# Altium integrated library TI Interface Optical Module IC.IntLib: 48 symbols (part 4 of 4)
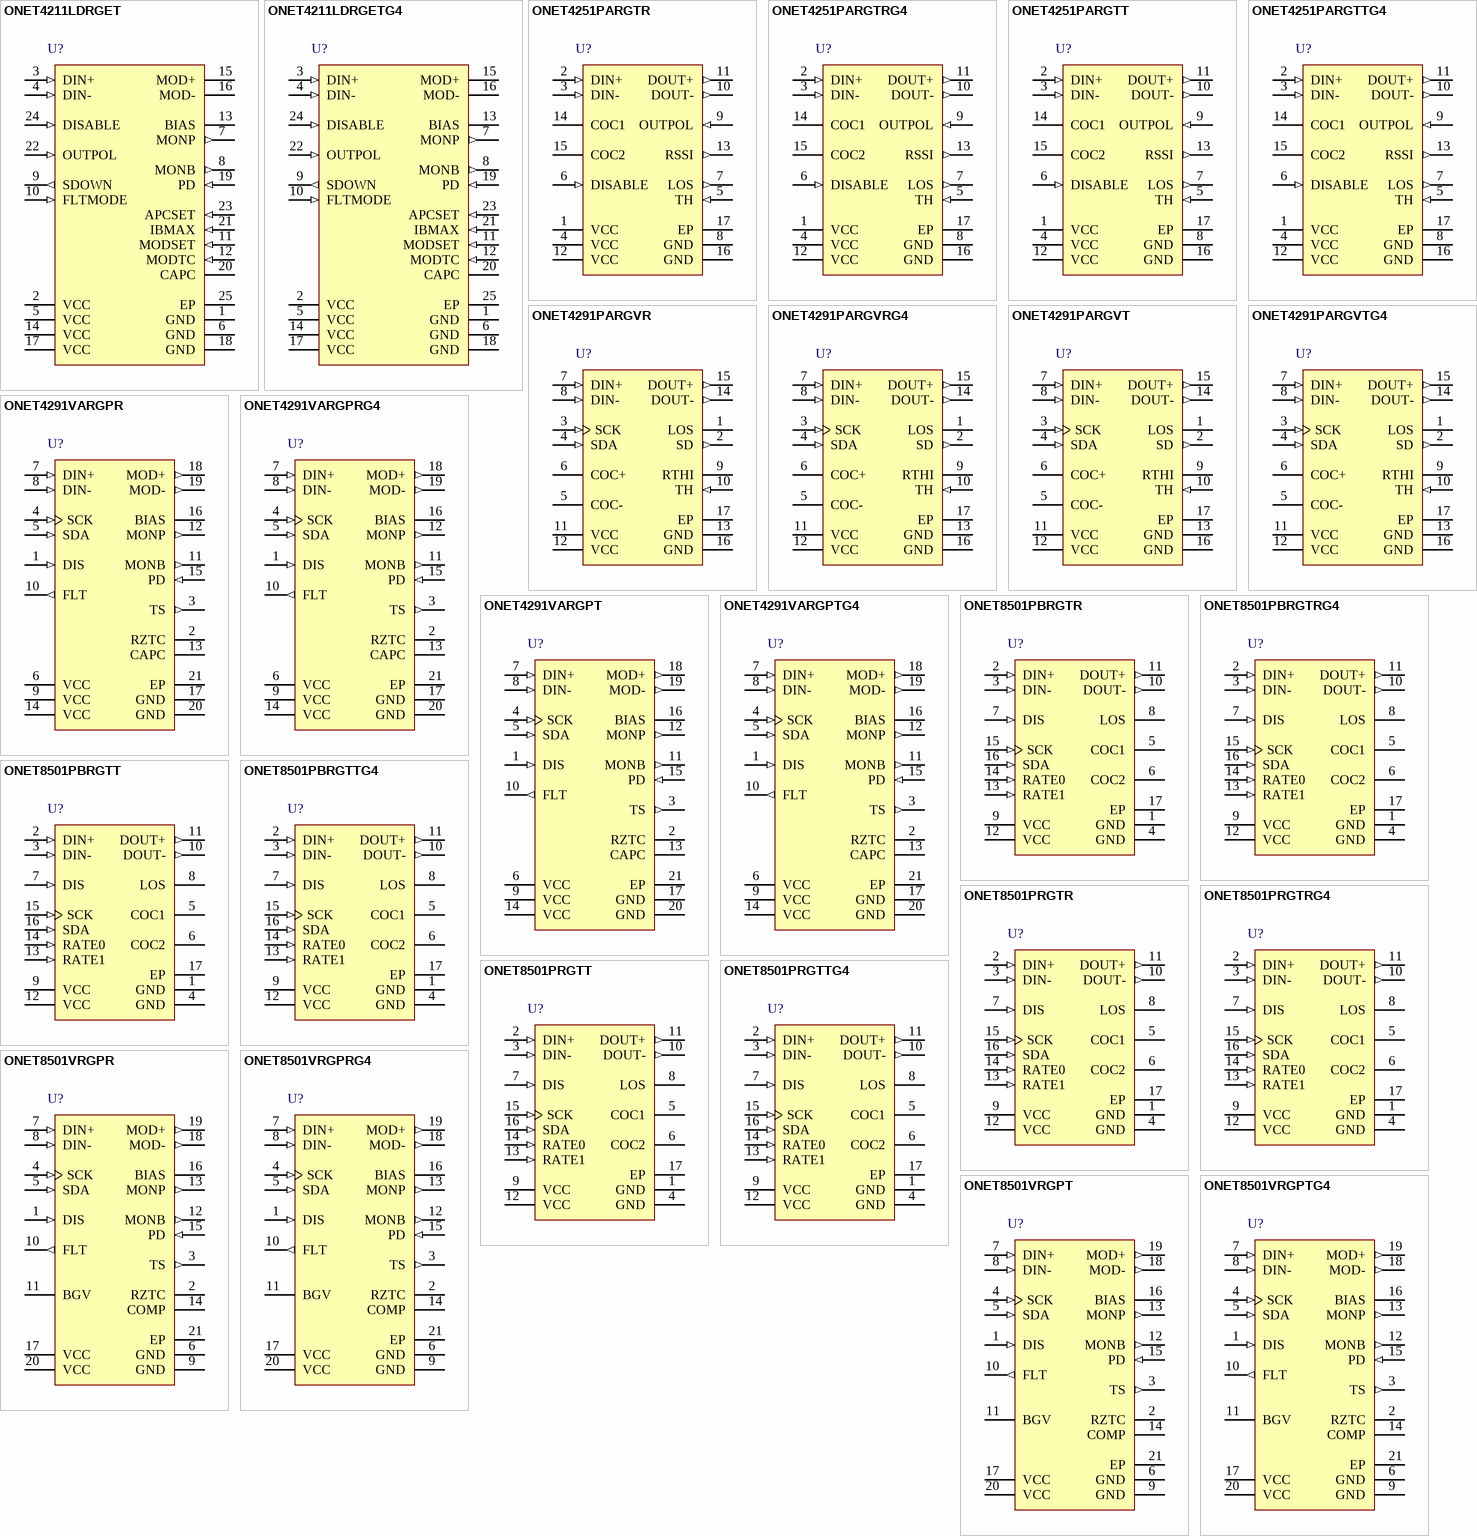
[diagram p4: symbols ONET4211LDRGET to ONET8501VRGPTG4]

## ONET8501VRGPRG4
designator U?
11.3 Gbps Differential VCSEL Driver with Output Waveform Shaping and 2 Wire Interface, 24 mA Imod-Max, 3.3 V, -40 to +85 degC, 20-pin QFN (RGP), Green (RoHS & no Sb/Br); Manufacturer: Texas Instruments; PartNumber: ONET8501VRGPRG4; 2-Wire Interface: TRUE; Data Rate(Typ)(Gbps): 11.3; DJ(Typ)(ps): 4; Ibias-max(Max)(mA): 20; ICC(Max)(mA): 90; ICC(Typ)(mA): 50; Imod-max(Max)(mA): 24; SubFamily: Laser Driver; VCC(V): 3.3; DatasheetVersion: SLLS837B; PackageVersion: revG, Jul-2011; PackageReference: RGP20-2700X2700TP; PackageDescription: 20-Pin Plastic Quad Flatpack No-Lead, 4 x 4 mm Body, 0.5 mm Pitch; Supplier 1: Digi-Key; Supplier Part Number 1: ONET8501VRGPRG4-ND; Supplier 2: Newark; Supplier Part Number 2: 52M5911; Supplier 3: Mouser; Supplier Part Number 3: 595-ONET8501VRGPRG4; Automatic Power Control Loop: TRUE; Bias Current Digital Select: TRUE; Eco-Plan: Green (RoHS & no Sb/Br); Modulation Current Digital Select: TRUE; Tf-out(Typ)(ps): 24; Tr-out(Typ)(ps): 24; Mounting Technology: Surface Mount; Code_JEDEC: MO-220; ComponentLink1Description: Datasheet; ComponentLink1URL: http://www.ti.com/general/docs/lit/getliterature.tsp?genericPartNumber=ONET8501V&fileType=pdf; ComponentLink2Description: URL Link1; ComponentLink2URL: SamplesURL:http://www.ti.com/product/onet8501v#samples
footprint RGP20-2700X2700TP (QFN, 20-Leads, Body 4x4mm, Pitch 0.5mm, Thermal Pad 2.7x2.7mm, TI Recommended)
pins: 1 DIS (in) "Disables bias, modulation and peaking currents when set to high state. Toggle to reset a fault condition.Recommend shorting pin to GND if disable feature is not used.", 2 RZTC "Connect external zero TC 28.7k ohm resistor to ground (GND). Used to generate a defined zero TCreference current for internal DACs.", 3 TS (out) "Temperature sensor output.", 4 SCK (in) "2-wire interface serial clock. Includes a pull-up resistor to VCC.", 5 SDA (in) "2-wire interface serial data input. Includes a pull-up resistor to VCC.", 6 GND (power) "Circuit ground.", 7 DIN+ (in) "Non-inverted data input. On-chip differentially 100 ohm terminated to DIN-. Must be AC coupled.", 8 DIN- (in) "Inverted data input. On-chip differentially 100 ohm terminated to DIN+. Must be AC coupled.", 9 GND (power) "Circuit ground.", 10 FLT (out) "Fault detection flag. LVCMOS output with source and sink capability.", 11 BGV (oc) "Buffered bandgap voltage with 1.16V output. This is a replica of the bandgap voltage at RZTC. For best matching, use the same 28.7k ohm resistor to GND as used at RZTC.", 12 MONB (out) "Bias current monitor. Sources a 3.5% replica of the bias current. Connect an external resistor to ground(GND). If the voltage at this pin exceeds 1.16V a fault is triggered. Typically choose a resistor to give MONB voltage (See Datasheet)", 13 MONP (out) "Photodiode current monitor. Sources a 27% replica of the photodiode current when PDR = 10, a 54% replica when PDR = 01, and a 270% replica when PDR=00. Connect an external resistor (5k ohm typical) to ground (GND).", 14 COMP "Compensation pin used to control the bandwidth of the APC loop. Connect a 0.01uF capacitor to ground.", 15 PD (in) "Photodiode input. Pin can source or sink current dependent on register setting.", 16 BIAS "Sinks average bias current for VCSEL in both APC and open loop modes. Connect to laser cathode through an inductor. BLM15HG102SN1D recommended.", 17 VCC (power) "3.3V +/- 10% supply voltage.", 18 MOD- (out) "Inverted modulation current output. On-chip 50ohm back-terminated to VCC. IMOD flows into this pin when input data is low.", 19 MOD+ (out) "Non-inverted modulation current output. On-chip 50 ohm back-terminated to VCC. IMOD flows into this pin when input data is high.", 20 VCC (power) "3.3V +/- 10% supply voltage.", 21 EP (power) "Exposed die pad (EP) must be grounded."

## ONET8501VRGPT
designator U?
11.3 Gbps Differential VCSEL Driver with Output Waveform Shaping and 2 Wire Interface, 24 mA Imod-Max, 3.3 V, -40 to +85 degC, 20-pin QFN (RGP), Green (RoHS & no Sb/Br); Manufacturer: Texas Instruments; PartNumber: ONET8501VRGPT; 2-Wire Interface: TRUE; Data Rate(Typ)(Gbps): 11.3; DJ(Typ)(ps): 4; Ibias-max(Max)(mA): 20; ICC(Max)(mA): 90; ICC(Typ)(mA): 50; Imod-max(Max)(mA): 24; SubFamily: Laser Driver; VCC(V): 3.3; DatasheetVersion: SLLS837B; PackageVersion: revG, Jul-2011; PackageReference: RGP20-2700X2700TP; PackageDescription: 20-Pin Plastic Quad Flatpack No-Lead, 4 x 4 mm Body, 0.5 mm Pitch; Supplier 1: Digi-Key; Supplier Part Number 1: 296-21958-2-ND; Supplier 2: Digi-Key; Supplier Part Number 2: 296-21958-1-ND; Supplier 3: Digi-Key; Supplier Part Number 3: 296-21958-6-ND; Supplier 4: Newark; Supplier Part Number 4: 48M0892; Supplier 5: Mouser; Supplier Part Number 5: 595-ONET8501VRGPT; Automatic Power Control Loop: TRUE; Bias Current Digital Select: TRUE; Eco-Plan: Green (RoHS & no Sb/Br); Modulation Current Digital Select: TRUE; Tf-out(Typ)(ps): 24; Tr-out(Typ)(ps): 24; Mounting Technology: Surface Mount; Code_JEDEC: MO-220; ComponentLink1Description: Datasheet; ComponentLink1URL: http://www.ti.com/general/docs/lit/getliterature.tsp?genericPartNumber=ONET8501V&fileType=pdf; ComponentLink2Description: URL Link1; ComponentLink2URL: SamplesURL:http://www.ti.com/product/onet8501v#samples
footprint RGP20-2700X2700TP (QFN, 20-Leads, Body 4x4mm, Pitch 0.5mm, Thermal Pad 2.7x2.7mm, TI Recommended)
pins: 1 DIS (in) "Disables bias, modulation and peaking currents when set to high state. Toggle to reset a fault condition.Recommend shorting pin to GND if disable feature is not used.", 2 RZTC "Connect external zero TC 28.7k ohm resistor to ground (GND). Used to generate a defined zero TCreference current for internal DACs.", 3 TS (out) "Temperature sensor output.", 4 SCK (in) "2-wire interface serial clock. Includes a pull-up resistor to VCC.", 5 SDA (in) "2-wire interface serial data input. Includes a pull-up resistor to VCC.", 6 GND (power) "Circuit ground.", 7 DIN+ (in) "Non-inverted data input. On-chip differentially 100 ohm terminated to DIN-. Must be AC coupled.", 8 DIN- (in) "Inverted data input. On-chip differentially 100 ohm terminated to DIN+. Must be AC coupled.", 9 GND (power) "Circuit ground.", 10 FLT (out) "Fault detection flag. LVCMOS output with source and sink capability.", 11 BGV (oc) "Buffered bandgap voltage with 1.16V output. This is a replica of the bandgap voltage at RZTC. For best matching, use the same 28.7k ohm resistor to GND as used at RZTC.", 12 MONB (out) "Bias current monitor. Sources a 3.5% replica of the bias current. Connect an external resistor to ground(GND). If the voltage at this pin exceeds 1.16V a fault is triggered. Typically choose a resistor to give MONB voltage (See Datasheet)", 13 MONP (out) "Photodiode current monitor. Sources a 27% replica of the photodiode current when PDR = 10, a 54% replica when PDR = 01, and a 270% replica when PDR=00. Connect an external resistor (5k ohm typical) to ground (GND).", 14 COMP "Compensation pin used to control the bandwidth of the APC loop. Connect a 0.01uF capacitor to ground.", 15 PD (in) "Photodiode input. Pin can source or sink current dependent on register setting.", 16 BIAS "Sinks average bias current for VCSEL in both APC and open loop modes. Connect to laser cathode through an inductor. BLM15HG102SN1D recommended.", 17 VCC (power) "3.3V +/- 10% supply voltage.", 18 MOD- (out) "Inverted modulation current output. On-chip 50ohm back-terminated to VCC. IMOD flows into this pin when input data is low.", 19 MOD+ (out) "Non-inverted modulation current output. On-chip 50 ohm back-terminated to VCC. IMOD flows into this pin when input data is high.", 20 VCC (power) "3.3V +/- 10% supply voltage.", 21 EP (power) "Exposed die pad (EP) must be grounded."

## ONET8501VRGPTG4
designator U?
11.3 Gbps Differential VCSEL Driver with Output Waveform Shaping and 2 Wire Interface, 24 mA Imod-Max, 3.3 V, -40 to +85 degC, 20-pin QFN (RGP), Green (RoHS & no Sb/Br); Manufacturer: Texas Instruments; PartNumber: ONET8501VRGPTG4; 2-Wire Interface: TRUE; Data Rate(Typ)(Gbps): 11.3; DJ(Typ)(ps): 4; Ibias-max(Max)(mA): 20; ICC(Max)(mA): 90; ICC(Typ)(mA): 50; Imod-max(Max)(mA): 24; SubFamily: Laser Driver; VCC(V): 3.3; DatasheetVersion: SLLS837B; PackageVersion: revG, Jul-2011; PackageReference: RGP20-2700X2700TP; PackageDescription: 20-Pin Plastic Quad Flatpack No-Lead, 4 x 4 mm Body, 0.5 mm Pitch; Supplier 1: Digi-Key; Supplier Part Number 1: ONET8501VRGPTG4-ND; Supplier 2: Newark; Supplier Part Number 2: 52M5912; Supplier 3: Mouser; Supplier Part Number 3: 595-ONET8501VRGPTG4; Automatic Power Control Loop: TRUE; Bias Current Digital Select: TRUE; Eco-Plan: Green (RoHS & no Sb/Br); Modulation Current Digital Select: TRUE; Tf-out(Typ)(ps): 24; Tr-out(Typ)(ps): 24; Mounting Technology: Surface Mount; Code_JEDEC: MO-220; ComponentLink1Description: Datasheet; ComponentLink1URL: http://www.ti.com/general/docs/lit/getliterature.tsp?genericPartNumber=ONET8501V&fileType=pdf; ComponentLink2Description: URL Link1; ComponentLink2URL: SamplesURL:http://www.ti.com/product/onet8501v#samples
footprint RGP20-2700X2700TP (QFN, 20-Leads, Body 4x4mm, Pitch 0.5mm, Thermal Pad 2.7x2.7mm, TI Recommended)
pins: 1 DIS (in) "Disables bias, modulation and peaking currents when set to high state. Toggle to reset a fault condition.Recommend shorting pin to GND if disable feature is not used.", 2 RZTC "Connect external zero TC 28.7k ohm resistor to ground (GND). Used to generate a defined zero TCreference current for internal DACs.", 3 TS (out) "Temperature sensor output.", 4 SCK (in) "2-wire interface serial clock. Includes a pull-up resistor to VCC.", 5 SDA (in) "2-wire interface serial data input. Includes a pull-up resistor to VCC.", 6 GND (power) "Circuit ground.", 7 DIN+ (in) "Non-inverted data input. On-chip differentially 100 ohm terminated to DIN-. Must be AC coupled.", 8 DIN- (in) "Inverted data input. On-chip differentially 100 ohm terminated to DIN+. Must be AC coupled.", 9 GND (power) "Circuit ground.", 10 FLT (out) "Fault detection flag. LVCMOS output with source and sink capability.", 11 BGV (oc) "Buffered bandgap voltage with 1.16V output. This is a replica of the bandgap voltage at RZTC. For best matching, use the same 28.7k ohm resistor to GND as used at RZTC.", 12 MONB (out) "Bias current monitor. Sources a 3.5% replica of the bias current. Connect an external resistor to ground(GND). If the voltage at this pin exceeds 1.16V a fault is triggered. Typically choose a resistor to give MONB voltage (See Datasheet)", 13 MONP (out) "Photodiode current monitor. Sources a 27% replica of the photodiode current when PDR = 10, a 54% replica when PDR = 01, and a 270% replica when PDR=00. Connect an external resistor (5k ohm typical) to ground (GND).", 14 COMP "Compensation pin used to control the bandwidth of the APC loop. Connect a 0.01uF capacitor to ground.", 15 PD (in) "Photodiode input. Pin can source or sink current dependent on register setting.", 16 BIAS "Sinks average bias current for VCSEL in both APC and open loop modes. Connect to laser cathode through an inductor. BLM15HG102SN1D recommended.", 17 VCC (power) "3.3V +/- 10% supply voltage.", 18 MOD- (out) "Inverted modulation current output. On-chip 50ohm back-terminated to VCC. IMOD flows into this pin when input data is low.", 19 MOD+ (out) "Non-inverted modulation current output. On-chip 50 ohm back-terminated to VCC. IMOD flows into this pin when input data is high.", 20 VCC (power) "3.3V +/- 10% supply voltage.", 21 EP (power) "Exposed die pad (EP) must be grounded."